# Altium schematic symbol library TPA3116D2DADR.Schlib: 1 symbol
Pins are listed as number, name and electrical type; pins without a type are passive.

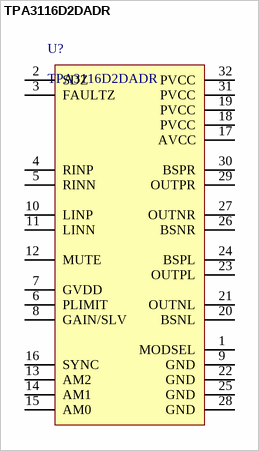
[diagram p0: symbol TPA3116D2DADR]

## TPA3116D2DADR
designator U?
IC AMP CLASS D STER 50W 32HTSSOP
pins: 1 MODSEL, 2 SDZ, 3 FAULTZ, 4 RINP, 5 RINN, 6 PLIMIT, 7 GVDD, 8 GAIN/SLV, 9 GND, 10 LINP, 11 LINN, 12 MUTE, 13 AM2, 14 AM1, 15 AM0, 16 SYNC, 17 AVCC, 18 PVCC, 19 PVCC, 20 BSNL, 21 OUTNL, 22 GND, 23 OUTPL, 24 BSPL, 25 GND, 26 BSNR, 27 OUTNR, 28 GND, 29 OUTPR, 30 BSPR, 31 PVCC, 32 PVCC